# EAGLE library part ECONOTIGER (library digital)
ECONO-Tiger: Microcontroller (Wilke Technologies)
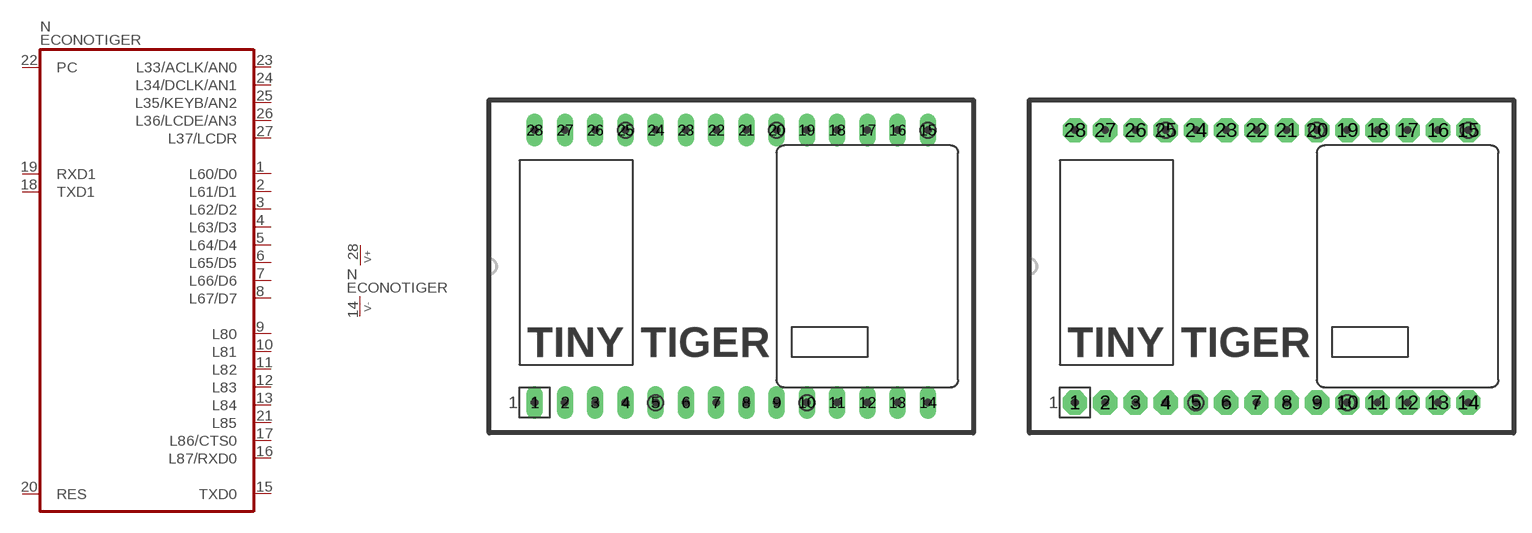
[diagram p47: symbol with the pads of ECONOTIGER_L; footprints ECONOTIGER_L, ECONOTIGER_N]

Designator prefix N; gates  =ECONOTIGER P=V+-

## ECONOTIGER  [ECONOTIGER_L]
1   :L60/D0
2   :L61/D1
3   :L62/D2
4   :L63/D3
5   :L64/D4
6   :L65/D5
7   :L66/D6
8   :L67/D7
9   :L80
10   :L81
11   :L82
12   :L83
13   :L84
14  P:V-  pwr
15   :TXD0
16   :L87/RXD0
17   :L86/CTS0
18   :TXD1
19   :RXD1
20   :RES  in
21   :L85
22   :PC
23   :L33/ACLK/AN0
24   :L34/DCLK/AN1
25   :L35/KEYB/AN2
26   :L36/LCDE/AN3
27   :L37/LCDR
28  P:V+  pwr

## ECONOTIGERL  [ECONOTIGER_L]
Pads as for ECONOTIGER_L

## ECONOTIGERN  [ECONOTIGER_N]
Pads as for ECONOTIGER_L

## ECONOTIGERR  [ECONOTIGER_R]
Pads as for ECONOTIGER_L

## Footprint ECONOTIGER_L (pad centres in mm)
ECONO-Tiger: Microcontroller case (Wilke Technologies) Hybrid IC, 28 pins, long pads
drill 0.813 pad 1.397 long: 1 0,0; 2 2.54,0; 3 5.08,0; 4 7.62,0; 5 10.16,0; 6 12.7,0; 7 15.24,0; 8 17.78,0; 9 20.32,0; 10 22.86,0; 11 25.4,0; 12 27.94,0; 13 30.48,0; 14 33.02,0; 15 33.02,22.86; 16 30.48,22.86; 17 27.94,22.86; 18 25.4,22.86; 19 22.86,22.86; 20 20.32,22.86; 21 17.78,22.86; 22 15.24,22.86; 23 12.7,22.86; 24 10.16,22.86; 25 7.62,22.86; 26 5.08,22.86; 27 2.54,22.86; 28 0,22.86

## Footprint ECONOTIGER_N (pad centres in mm)
ECONO-Tiger: Microcontroller case (Wilke Technologies) Hybrid IC, 28 pins
drill 0.813 pad 2.032 octagon: 1 0,0; 2 2.54,0; 3 5.08,0; 4 7.62,0; 5 10.16,0; 6 12.7,0; 7 15.24,0; 8 17.78,0; 9 20.32,0; 10 22.86,0; 11 25.4,0; 12 27.94,0; 13 30.48,0; 14 33.02,0; 15 33.02,22.86; 16 30.48,22.86; 17 27.94,22.86; 18 25.4,22.86; 19 22.86,22.86; 20 20.32,22.86; 21 17.78,22.86; 22 15.24,22.86; 23 12.7,22.86; 24 10.16,22.86; 25 7.62,22.86; 26 5.08,22.86; 27 2.54,22.86; 28 0,22.86

## Footprint ECONOTIGER_R (pad centres in mm)
ECONO-Tiger: Microcontroller case (Wilke Technologies) Hybrid IC, 28 pins, reduced pads
drill 0.813 pad 1.397 square: 1 0,0; 2 2.54,0; 3 5.08,0; 4 7.62,0; 5 10.16,0; 6 12.7,0; 7 15.24,0; 8 17.78,0; 9 20.32,0; 10 22.86,0; 11 25.4,0; 12 27.94,0; 13 30.48,0; 14 33.02,0; 15 33.02,22.86; 16 30.48,22.86; 17 27.94,22.86; 18 25.4,22.86; 19 22.86,22.86; 20 20.32,22.86; 21 17.78,22.86; 22 15.24,22.86; 23 12.7,22.86; 24 10.16,22.86; 25 7.62,22.86; 26 5.08,22.86; 27 2.54,22.86; 28 0,22.86